# EAGLE library part FRANZINO_WIFI (library biblioteca franzininho wifi v13)
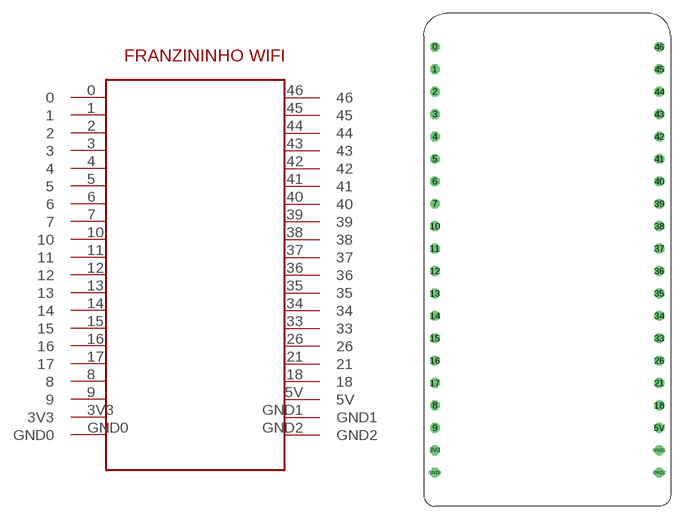
[diagram p0: symbol with the pads of FRANZININHO_WIFI; footprint FRANZININHO_WIFI]

Designator prefix -

## FRANZINO_WIFI  [FRANZININHO_WIFI]
0  0
1  1
2  2
3  3
3V3  3V3
4  4
5  5
5V  5V
6  6
7  7
8  8
9  9
10  10
11  11
12  12
13  13
14  14
15  15
16  16
17  17
18  18
21  21
26  26
33  33
34  34
35  35
36  36
37  37
38  38
39  39
40  40
41  41
42  42
43  43
44  44
45  45
46  46
GND0  GND0
GND1  GND1
GND2  GND2

## Footprint FRANZININHO_WIFI (pad centres in mm)
drill 0.6 octagon: 0 0,48.26; 1 0,45.72; 2 0,43.18; 3 0,40.64; 3V3 0,2.54; 4 0,38.1; 5 0,35.56; 5V 25.4,5.08; 6 0,33.02; 7 0,30.48; 8 0,7.62; 9 0,5.08; 10 0,27.94; 11 0,25.4; 12 0,22.86; 13 0,20.32; 14 0,17.78; 15 0,15.24; 16 0,12.7; 17 0,10.16; 18 25.4,7.62; 21 25.4,10.16; 26 25.4,12.7; 33 25.4,15.24; 34 25.4,17.78; 35 25.4,20.32; 36 25.4,22.86; 37 25.4,25.4; 38 25.4,27.94; 39 25.4,30.48; 40 25.4,33.02; 41 25.4,35.56; 42 25.4,38.1; 43 25.4,40.64; 44 25.4,43.18; 45 25.4,45.72; 46 25.4,48.26; GND0 0,0; GND1 25.4,2.54; GND2 25.4,0